# EAGLE library part FH12-40S-0.5SH_55__LCSC (library lcsc_parts)
Description: FFC/FPC Connector 40 Position 0.5mm Pitch Bottom Contact Surface Mount, Right Angle -40℃~+85℃ Manufacturer: HRS MPN: FH12-40S-0.5SH(55) LCSC Part: C202114 Category: FFC, FPC (Flat Flexible) Connector Assemblies Datasheet: https://datasheet.lcsc.com/datasheet/pdf/6e8da5fecf0f520788a618d6da1919a1.pdf?productCode=C202114
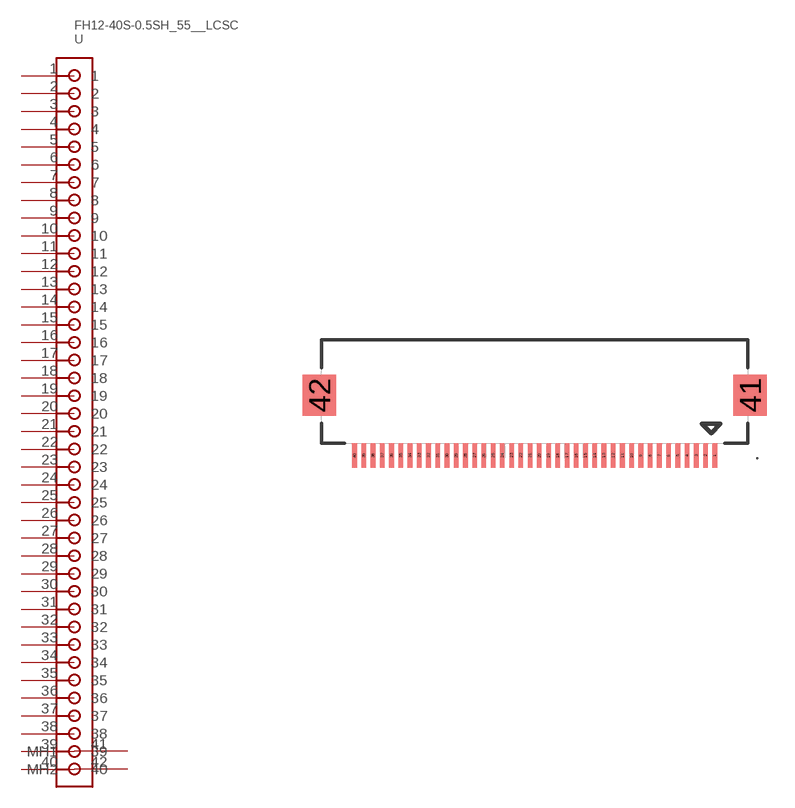
[diagram p5: symbol with the pads of FPC-SMD_FH12-40S-0.5SH-55; footprint FPC-SMD_FH12-40S-0.5SH-55]

Designator prefix U

## FH12-40S-0.5SH_55__LCSC (CATEGORY: FFC, FPC (Flat Flexible) Connector Assemblies; CONTACT_MATERIAL: Phosphor bronze; CONTACT_PLATING: Gold; CONTACT_TYPE: Bottom Contact; DATASHEET: https://datasheet.lcsc.com/datasheet/pdf/6e8da5fecf0f520788a618d6da1919a1.pdf?productCode=C202114; DESCRIPTION: FFC/FPC Connector 40 Position 0.5mm Pitch Bottom Contact Surface Mount, Right Angle -40℃~+85℃; FFC_FCB_THICKNESS: 0.3mm; LCSC_PART: C202114; LCSC_STOCK: 7859; LOCKING_FEATURE: Hinged Lid; MANUFACTURER: HRS; MOUNTING_TYPE: Surface Mount, Right Angle; MPN: FH12-40S-0.5SH(55); NUMBER_OF_CONTACTS: 40P; OPERATING_TEMPERATURE: -40℃~+85℃; PARTNO: FH12-40S-0.5SH(55); PITCH: 0.5mm; PRICING_1000: $0.3683/unit @ 1000; PRICING_50: $0.4953/unit @ 50)  [FPC-SMD_FH12-40S-0.5SH-55]
1  1
2  2
3  3
4  4
5  5
6  6
7  7
8  8
9  9
10  10
11  11
12  12
13  13
14  14
15  15
16  16
17  17
18  18
19  19
20  20
21  21
22  22
23  23
24  24
25  25
26  26
27  27
28  28
29  29
30  30
31  31
32  32
33  33
34  34
35  35
36  36
37  37
38  38
39  39
40  40
41  MH1
42  MH2

## Footprint FPC-SMD_FH12-40S-0.5SH-55 (pad centres in mm)
smd 0.25 x 1.308: 1 9.75,-1.63; 2 9.25,-1.63; 3 8.75,-1.63; 4 8.25,-1.63; 5 7.75,-1.63; 6 7.25,-1.63; 7 6.75,-1.63; 8 6.25,-1.63; 9 5.75,-1.63; 10 5.25,-1.63; 11 4.75,-1.63; 12 4.25,-1.63; 13 3.75,-1.63; 14 3.25,-1.63; 15 2.75,-1.63; 16 2.25,-1.63; 17 1.75,-1.63; 18 1.25,-1.63; 19 0.75,-1.63; 20 0.25,-1.63; 21 -0.25,-1.63; 22 -0.75,-1.63; 23 -1.25,-1.63; 24 -1.75,-1.63; 25 -2.25,-1.63; 26 -2.75,-1.63; 27 -3.25,-1.63; 28 -3.75,-1.63; 29 -4.25,-1.63; 30 -4.75,-1.63; 31 -5.25,-1.63; 32 -5.75,-1.63; 33 -6.25,-1.63; 34 -6.75,-1.63; 35 -7.25,-1.63; 36 -7.75,-1.63; 37 -8.25,-1.63; 38 -8.75,-1.63; 39 -9.25,-1.63; 40 -9.75,-1.63
smd 1.816 x 2.223: 41 11.66,1.63; 42 -11.66,1.63